# EAGLE library part SM06B-SURS-TF (library sapog_reference_hardware)
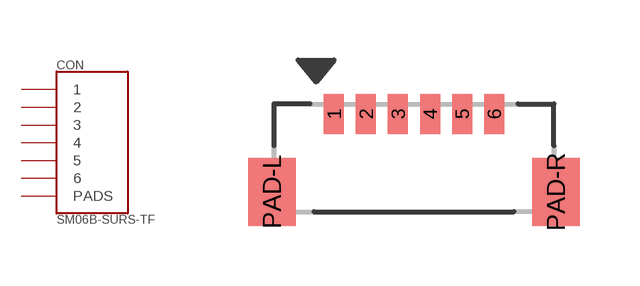
[diagram p4: symbol with the pads of SM02B-SURS-TF; footprint SM02B-SURS-TF]

Designator prefix CON

## SM06B-SURS-TF (DIGIKEY#: SM06B-SURS-TF(LF)(SN)-ND; MANF#: SM06B-SURS-TF(LF)(SN))  [SM02B-SURS-TF]
1  1
2  2
3  3
4  4
5  5
6  6
PAD-L  PADS
PAD-R  PADS

## Footprint SM02B-SURS-TF (pad centres in mm)
smd 0.5 x 1: 1 -2,2.8; 2 -1.2,2.8; 3 -0.4,2.8; 4 0.4,2.8; 5 1.2,2.8; 6 2,2.8
smd 1.2 x 1.7: PAD-L -3.55,0.85; PAD-R 3.55,0.85